# EAGLE library part CPL-ETH-MAGJACK-PULSE (library TinWhiskers - Copy)
Ethernet MagJack; Datasheet: http://www.mouser.com/ds/2/336/-180197.pdf
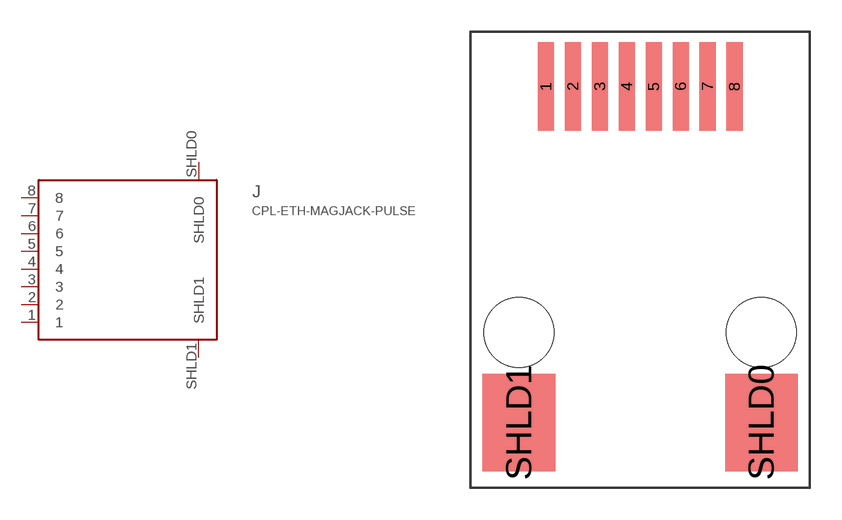
[diagram p8: symbol with the pads of ETH-MAGJACK; footprint ETH-MAGJACK]

Designator prefix J

## CPL-ETH-MAGJACK-PULSE  [ETH-MAGJACK]
1  1  pas
2  2  pas
3  3  pas
4  4  pas
5  5  pas
6  6  pas
7  7  pas
8  8  pas
SHLD0  SHLD0  pas
SHLD1  SHLD1  pas

## Footprint ETH-MAGJACK (pad centres in mm)
smd 0.76 x 4.18: 1 -4.445,7.925; 2 -3.175,7.925; 3 -1.905,7.925; 4 -0.635,7.925; 5 0.635,7.925; 6 1.905,7.925; 7 3.175,7.925; 8 4.445,7.925
smd 3.425 x 4.58: SHLD0 5.715,-7.925; SHLD1 -5.715,-7.925
hole 3.3 at -5.715,-3.685
hole 3.3 at 5.715,-3.685